# EAGLE library part 690367292676 (library Board_to_Board_Connectors_rev15d)
WR-MM Female SMT Connector with Latch and with Polarization, 26 Pins=>Code : Con_BTB_MM_Female_SMT_690367292676 <http://katalog.we-online.de/media/thumbs2/eican/thb_Con_BTB_MM_Female_SMT_69036729xx76_pf2.jpg> Details see: http://katalog.we-online.de/en/em/6903_6729_xx_76 Created 2014-06-04, Karrer Zheng 2014 (C) Würth Elektronik
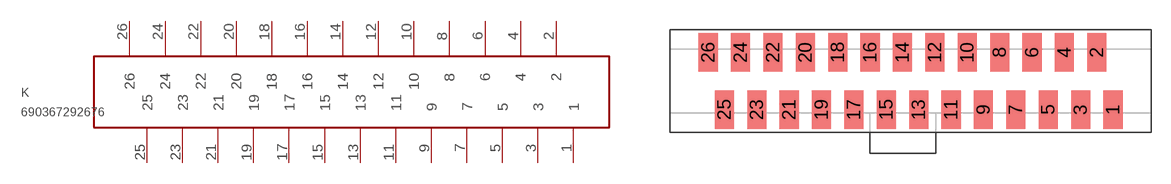
[diagram p386: symbol with the pads of 690367292676; footprint 690367292676]

Designator prefix K

## 690367292676  [690367292676]
1  1  pas
2  2  pas
3  3  pas
4  4  pas
5  5  pas
6  6  pas
7  7  pas
8  8  pas
9  9  pas
10  10  pas
11  11  pas
12  12  pas
13  13  pas
14  14  pas
15  15  pas
16  16  pas
17  17  pas
18  18  pas
19  19  pas
20  20  pas
21  21  pas
22  22  pas
23  23  pas
24  24  pas
25  25  pas
26  26  pas

## Footprint 690367292676 (pad centres in mm)
WR-MM Female SMT Connector with Latch and with Polarization, 26 pins
smd 1.5 x 3: 1 16.51,-2.25; 2 15.24,2.25; 3 13.97,-2.25; 4 12.7,2.25; 5 11.43,-2.25; 6 10.16,2.25; 7 8.89,-2.25; 8 7.62,2.25; 9 6.35,-2.25; 10 5.08,2.25; 11 3.81,-2.25; 12 2.54,2.25; 13 1.27,-2.25; 14 0,2.25; 15 -1.27,-2.25; 16 -2.54,2.25; 17 -3.81,-2.25; 18 -5.08,2.25; 19 -6.35,-2.25; 20 -7.62,2.25; 21 -8.89,-2.25; 22 -10.16,2.25; 23 -11.43,-2.25; 24 -12.7,2.25; 25 -13.97,-2.25; 26 -15.24,2.25